# Altium schematic symbol library GRM1885C1H102FA01J.SchLib: 1 symbol
Pins are listed as number, name and electrical type; pins without a type are passive.

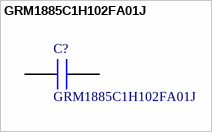
[diagram p0: symbol GRM1885C1H102FA01J]

## GRM1885C1H102FA01J
designator C?
MURATA - GRM1885C1H102FA01J - CAP, MLCC, C0G, 1000PF, 50V, 0603; Manufacturer_Name: Murata Electronics; Geometry.Height: 0.9mm; Mouser Part Number: 81-GRM1885C1H102FA1J; Manufacturer_Part_Number: GRM1885C1H102FA01J; Datasheet Link: https://componentsearchengine.com/Datasheets/1/GRM1885C1H102FA01J.pdf
footprint CAPC1608X90N
pins: 1, 2